# Altium schematic symbol library larklib.SchLib: 21 symbols
Pins are listed as number, name and electrical type; pins without a type are passive.

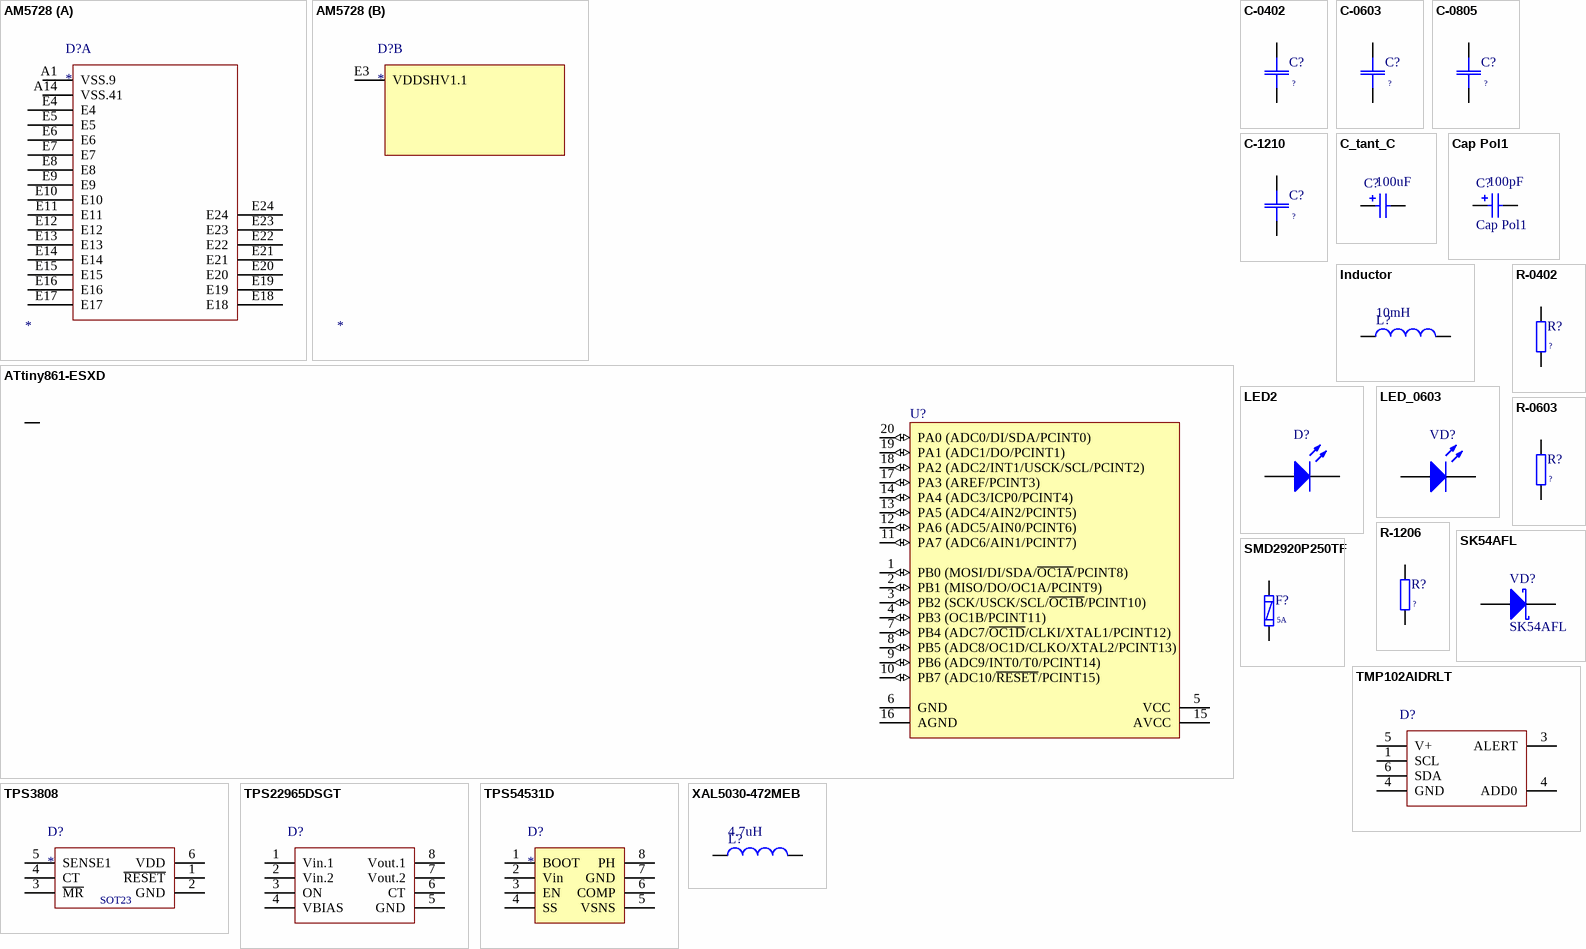
[diagram p0: symbols AM5728 to XAL5030-472MEB]

## AM5728
designator D?
Supplier: *; Part no: *; HelpURL: *
part A pins: A1 VSS.9, A14 VSS.41, E4, E5, E6, E7, E8, E9, E10, E11, E12, E13, E14, E15, E16, E17, E18, E19, E20, E21, E22, E23, E24
part B pins: E3 VDDSHV1.1

## ATtiny861-ESXD
designator U?
8-bit Automotive AVR Microcontroller, 16MHz, 2.7-5.5V, 8KB Flash, 512 Bytes EEPROM, 512 Bytes SRAM, Extended Grade (-40°C to +150°C), 20-Pin TSSOP; DatasheetVersion: revD, Nov-2010; PackageVersion: revA, Dec-2007; PackageReference: 6G; PackageDescription: 20-Lead, 4.4 x 6.5 mm Body, 0.65 mm Pitch, Lead Length: 0.6 mm, Thin Shrink Small Outline Package (TSSOP); Code_JEDEC: MO-153-AC; ComponentLink1Description: Manufacturer URL; ComponentLink1URL: http://www.atmel.com/; ComponentLink2Description: ATiny261/461/861 Datasheet; ComponentLink2URL: http://www.atmel.com/dyn/resources/prod_documents/doc7753.pdf; ComponentLink3Description: ATiny261/461/861 Summary; ComponentLink3URL: http://www.atmel.com/dyn/resources/prod_documents/7753S.pdf; ComponentLink4Description: ATiny261/461/861 Appendix; ComponentLink4URL: http://www.atmel.com/dyn/resources/prod_documents/doc7793.pdf
footprint 6G_N (TSOP, 20-Leads, Body 6.5x4.4mm, Pitch 0.65mm, IPC Medium Density)
footprint 6G_L (TSOP, 20-Leads, Body 6.5x4.4mm, Pitch 0.65mm, IPC High Density)
footprint 6G_M (TSOP, 20-Leads, Body 6.5x4.4mm, Pitch 0.65mm, IPC Low Density)
pins: 1 PB0 (MOSI/DI/SDA/~{OC1A}/PCINT8) (io), 2 PB1 (MISO/DO/OC1A/PCINT9) (io), 3 PB2 (SCK/USCK/SCL/~{OC1B}/PCINT10) (io), 4 PB3 (OC1B/PCINT11) (io), 5 VCC (power), 6 GND (power), 7 PB4 (ADC7/~{OC1D}/CLKI/XTAL1/PCINT12) (io), 8 PB5 (ADC8/OC1D/CLKO/XTAL2/PCINT13) (io), 9 PB6 (ADC9/INT0/T0/PCINT14) (io), 10 PB7 (ADC10/~{RESET}/PCINT15) (io), 11 PA7 (ADC6/AIN1/PCINT7) (io), 12 PA6 (ADC5/AIN0/PCINT6) (io), 13 PA5 (ADC4/AIN2/PCINT5) (io), 14 PA4 (ADC3/ICP0/PCINT4) (io), 15 AVCC (power), 16 AGND (power), 17 PA3 (AREF/PCINT3) (io), 18 PA2 (ADC2/INT1/USCK/SCL/PCINT2) (io), 19 PA1 (ADC1/DO/PCINT1) (io), 20 PA0 (ADC0/DI/SDA/PCINT0) (io)

## C-0402
designator C?, comment ?
Supplier: *; Package: *; Part no: *; Value: ?
simulation model Capacitor (Model Description)
signal-integrity model Cap (Model Description)
pins: 1, 2
1 alternate drawing of the same symbol

## C-0603
designator C?, comment ?
Supplier: *; Package: *; Part no: *; Value: ?
simulation model Capacitor (Model Description)
signal-integrity model Cap (Model Description)
pins: 1, 2
1 alternate drawing of the same symbol

## C-0805
designator C?, comment ?
Supplier: *; Package: *; Part no: *; Value: ?
simulation model Capacitor (Model Description)
signal-integrity model Cap (Model Description)
pins: 1, 2
1 alternate drawing of the same symbol

## C-1210
designator C?, comment ?
Supplier: *; Package: *; Part no: *; Value: ?
simulation model Capacitor (Model Description)
signal-integrity model Cap (Model Description)
pins: 1, 2
1 alternate drawing of the same symbol

## C_tant_C
designator C?  value 100uF  (hidden comment: C_tant_C)
Polarized Capacitor; Supplier: *; Package: *; Part no: *
simulation model CAP (Capacitor)
signal-integrity model Cap Pol
pins: 1, 2
1 alternate drawing of the same symbol

## Cap Pol1
designator C?  value 100pF
Polarized Capacitor (Radial)
footprint RB7.6-15 (Polarized Capacitor (Radial); 2 Leads)
simulation model CAP (Capacitor)
signal-integrity model Cap Pol
pins: 1, 2
1 alternate drawing of the same symbol

## Inductor
designator L?  value 10mH
Inductor; Code_IEC: 1005; Published: 8-Jun-2000; LatestRevisionDate: 29-May-2009; LatestRevisionNote: IPC-7351 Footprint Added.; PackageReference: 0402-A; Publisher: Altium Limited; PackageDescription: Chip Inductor; Code_JEITA: 0402
footprint 0402-A (Chip Inductor, Body 1.0x0.5mm, IPC High Density)
footprint INDC1608L (Chip Inductor, Body 1.6x0.8mm, IPC High Density)
footprint 2029 (Chip Inductor, Body 2.0x1.2mm, IPC High Density)
footprint 0603 (Chip Inductor, Body 0.6x0.3mm, IPC High Density)
footprint INDC3216 (Chip Inductor, Body 3.2x1.6mm, IPC High Density)
footprint INDC4532 (Chip Inductor, Body 4.5x3.2mm, IPC High Density)
simulation model INDUCTOR (Inductor)
signal-integrity model Inductor
pins: 1, 2

## LED2
designator D?
Typical RED, GREEN, YELLOW, AMBER GaAs LED; Published: 8-Jun-2000; LatestRevisionDate: 17-Jul-2002; LatestRevisionNote: Re-released for DXP Platform.; PackageVersion: Feb-2002; PackageReference: 3.2X1.6X1.1; Publisher: Altium Limited; PackageDescription: SM LED; 2 Flat Leads
footprint 3.2X1.6X1.1 (SMT LED; 2 Flat Leads)
simulation model LED2 (Diode)
pins: 1 A, 2 K

## LED_0603
designator VD?  (value not drawn)
RED BL-HUB36A 0603; Published: 8-Jun-2000; LatestRevisionDate: 17-Jul-2002; LatestRevisionNote: Re-released for DXP Platform.; PackageVersion: Feb-2002; PackageReference: 3.2X1.6X1.1; Publisher: Altium Limited; PackageDescription: SM LED; 2 Flat Leads
footprint 3.2X1.6X1.1 (SMT LED; 2 Flat Leads)
simulation model LED2 (Diode)
pins: 1 A, 2 K

## R-0402
designator R?, comment ?
Supplier: *; Package: *; Value: ?
simulation model Resistor (Model Description)
signal-integrity model Res (Model Description)
pins: 1, 2
1 alternate drawing of the same symbol

## R-0603
designator R?, comment ?
Supplier: *; Package: *; Value: ?
simulation model Resistor (Model Description)
signal-integrity model Res (Model Description)
pins: 1, 2
1 alternate drawing of the same symbol

## R-1206
designator R?, comment ?
Supplier: *; Package: *; Value: ?
simulation model Resistor (Model Description)
signal-integrity model Res (Model Description)
pins: 1, 2
1 alternate drawing of the same symbol

## SK54AFL
designator VD?
Schottky Diode for High-Speed Switching 40V 5A; Note: Pin 2 is not connected and not drawn.; Published: 21-Mar-2003; LatestRevisionDate: 29-May-2009; LatestRevisionNote: IPC-7351 Footprint Added.; DatasheetVersion: Oct-1999; PackageVersion: Sep-2001; PackageReference: SOT-23; Publisher: Altium Limited; PackageDescription: 3-Pin SOT-23 Package 0.95 mm Pitch, 2.5 mm Lead Span; ComponentLink1Description: Manufacturer Link; ComponentLink1URL: http://www.infineon.com/; ComponentLink2Description: Datasheet; ComponentLink2URL: http://www.infineon.com/upload/Document/cmc_upload/documents/009/382/bas40_bas140series_1.pdf
footprint SOT-23_N (SOT23, 3-Leads, Body 2.9x1.3mm, Pitch 0.95mm, Lead Span 2.5mm, IPC Medium Density)
footprint SOT-23_L (SOT23, 3-Leads, Body 2.9x1.3mm, Pitch 0.95mm, Lead Span 2.5mm, IPC High Density)
footprint SOT-23_M (SOT23, 3-Leads, Body 2.9x1.3mm, Pitch 0.95mm, Lead Span 2.5mm, IPC Low Density)
simulation model BAS70 (DIODE)
pins: 1 A, 3 K

## SMD2920P250TF
designator F?, comment 5A
SMD 0603 0.0625W 5% 50V; Manufacturer Part Number: SMD2920P250TFA; Price: 0.017; Value: 5A
simulation model Resistor (Model Description)
signal-integrity model Res (Model Description)
pins: 1, 2
1 alternate drawing of the same symbol

## TMP102AIDRLT
designator D?  (value not drawn)
Manufacturer: Texas Instruments; Manufacturer Part Number: TMP102AIDRLT; Description: SENSOR TEMPERATURE SMBUS SOT563; HelpURL: http://www.ti.com/lit/ds/symlink/tmp102.pdf; Package / Case: SOT-563, SOT-666; Operating Temperature: -55°C ~ 150°C
pins: 1 SCL, 3 ALERT, 4 GND, 4 ADD0, 5 V+, 6 SDA

## TPS3808
designator D?
HelpURL: http://www.ti.com/lit/ds/symlink/tps3808.pdf; ComponentLink1URL: yandex.ru; Supplier: *; Package: *; Part no: *
pins: 1 ~{RESET}, 2 GND, 3 ~{MR}, 4 CT, 5 SENSE1, 6 VDD
text: SOT23

## TPS22965DSGT
designator D?  (value not drawn)
Manufacturer: Texas Instruments; Manufacturer Part Number: TPS22965DSGT; Description: IC LOAD SWITCH 6A 8WSON; HelpURL: http://www.ti.com/lit/ds/symlink/tps22965.pdf; Operating Temperature: -40°C ~ 105°C (TA); Package / Case: 8-WFDFN Exposed Pad
pins: 1 Vin.1, 2 Vin.2, 3 ON, 4 VBIAS, 5 GND, 6 CT, 7 Vout.2, 8 Vout.1

## TPS54531D
designator D?
pins: 1 BOOT, 2 Vin, 3 EN, 4 SS, 5 VSNS, 6 COMP, 7 GND, 8 PH

## XAL5030-472MEB
designator L?  value 4.7uH  (hidden comment: XAL5030-472MEB)
Inductor 4.7uH; Code_IEC: 1005; Published: 8-Jun-2000; LatestRevisionDate: 29-May-2009; LatestRevisionNote: IPC-7351 Footprint Added.; PackageReference: 0402-A; Publisher: Altium Limited; PackageDescription: Chip Inductor; Code_JEITA: 0402
footprint 0402-A (Chip Inductor, Body 1.0x0.5mm, IPC High Density)
footprint INDC1608L (Chip Inductor, Body 1.6x0.8mm, IPC High Density)
footprint 2029 (Chip Inductor, Body 2.0x1.2mm, IPC High Density)
footprint 0603 (Chip Inductor, Body 0.6x0.3mm, IPC High Density)
footprint INDC3216 (Chip Inductor, Body 3.2x1.6mm, IPC High Density)
footprint INDC4532 (Chip Inductor, Body 4.5x3.2mm, IPC High Density)
simulation model INDUCTOR (Inductor)
signal-integrity model Inductor
pins: 1, 2